# Altium schematic symbol library sn74lvc1g07dbvr.SchLib: 1 symbol
Pins are listed as number, name and electrical type; pins without a type are passive.

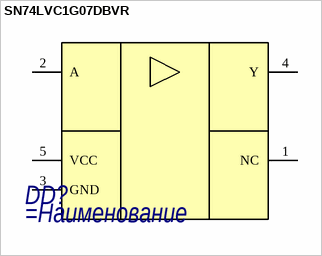
[diagram p0: symbol SN74LVC1G07DBVR]

## SN74LVC1G07DBVR
designator DD?
=Описание
pins: 1 NC, 2 A, 3 GND, 4 Y, 5 VCC